# Altium integrated library Titan_Balancer.IntLib: 6 symbols
Pins are listed as number, name and electrical type; pins without a type are passive.

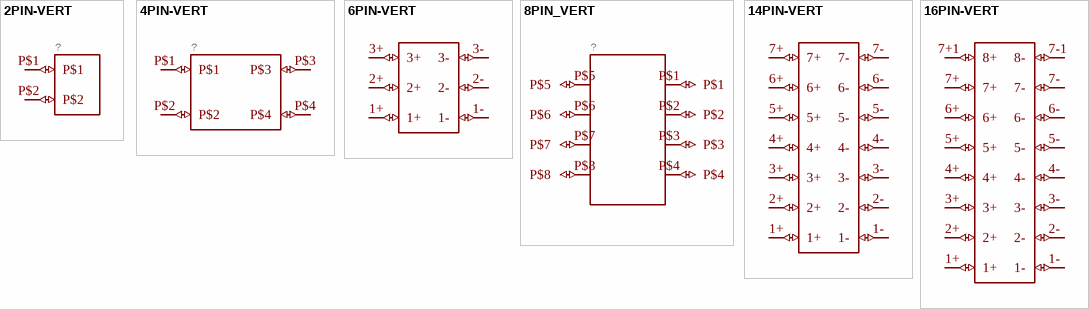
[diagram p0: symbols 2PIN-VERT to 16PIN-VERT]

## 2PIN-VERT
designator ?
GateName_1: G$1; SymbolName_1: 2PIN-VERT; LibraryName: Vertical_Connectors; DeviceSetName: 2PIN-VERT; Package: 2PIN-VERT
footprint 2PIN-VERT
pins: P$1 (io), P$2 (io)

## 4PIN-VERT
designator ?
GateName_1: G$1; SymbolName_1: 4PIN-VERT; LibraryName: Vertical_Connectors; DeviceSetName: 4PIN-VERT; Package: 4PIN-VERT
footprint 4PIN-VERT
pins: P$1 (io), P$2 (io), P$3 (io), P$4 (io)

## 6PIN-VERT
designator ?
GateName_1: G$1; SymbolName_1: 6PIN_VERT; DeviceSetName: 6PIN-VERT; LibraryName: Vertical_Connectors; Package: 6PIN_VERT
footprint 6PIN_VERT
pins: 1+ (io), 1- (io), 2+ (io), 2- (io), 3+ (io), 3- (io)

## 8PIN_VERT
designator ?
GateName_1: G$1; SymbolName_1: 8PIN_VERT; LibraryName: Vertical_Connectors; DeviceSetName: 8PIN_VERT; Package: 8PIN_VERT
footprint 8PIN_VERT
pins: P$1 (io), P$2 (io), P$3 (io), P$4 (io), P$5 (io), P$6 (io), P$7 (io), P$8 (io)

## 14PIN-VERT
designator ?
GateName_1: G$1; SymbolName_1: 14PIN_VERT; DeviceSetName: 14PIN-VERT; LibraryName: Vertical_Connectors; Package: 14PIN_VERT
footprint 14PIN_VERT
pins: 1+ (io), 1- (io), 2+ (io), 2- (io), 3+ (io), 3- (io), 4+ (io), 4- (io), 5+ (io), 5- (io), 6+ (io), 6- (io), 7+ (io), 7- (io)

## 16PIN-VERT
designator ?
GateName_1: G$1; SymbolName_1: 16PIN_VERT; DeviceSetName: 16PIN-VERT; LibraryName: Vertical_Connectors; Package: 16PIN_VERT
footprint 16PIN_VERT
pins: 1+ (io), 1- (io), 2+ (io), 2- (io), 3+ (io), 3- (io), 4+ (io), 4- (io), 5+ (io), 5- (io), 6+ (io), 6- (io), 7+ (io), 7+1 8+ (io), 7- (io), 7-1 8- (io)